# EAGLE library part IOT-GA6-B (library IOT-GA6-B)
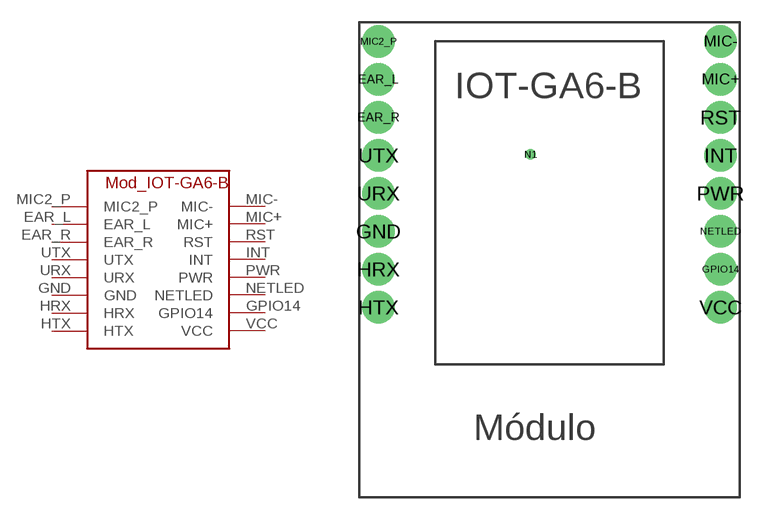
[diagram p0: symbol with the pads of IOT-GA6-B; footprint IOT-GA6-B]

Designator prefix -

## IOT-GA6-B  [IOT-GA6-B]
EAR_L  EAR_L
EAR_R  EAR_R
GND  GND
GPIO14  GPIO14
HRX  HRX
HTX  HTX
INT  INT
MIC2_P  MIC2_P
MIC+  MIC+
MIC-  MIC-
NETLED  NETLED
PWR  PWR
RST  RST
URX  URX
UTX  UTX
VCC  VCC

## Footprint IOT-GA6-B (pad centres in mm)
drill 1 pad 2.184: EAR_L -10.16,5.08; EAR_R -10.16,2.54; GND -10.16,-5.08; GPIO14 12.7,-7.62; HRX -10.16,-7.62; HTX -10.16,-10.16; INT 12.7,0; MIC2_P -10.16,7.62; MIC+ 12.7,5.08; MIC- 12.7,7.62; NETLED 12.7,-5.08; PWR 12.7,-2.54; RST 12.7,2.54; URX -10.16,-2.54; UTX -10.16,0; VCC 12.7,-10.16
drill 0.2 pad 0.025: N1 0,0.065